# Altium integrated library NSC Audio.IntLib: 691 symbols (part 16 of 18)
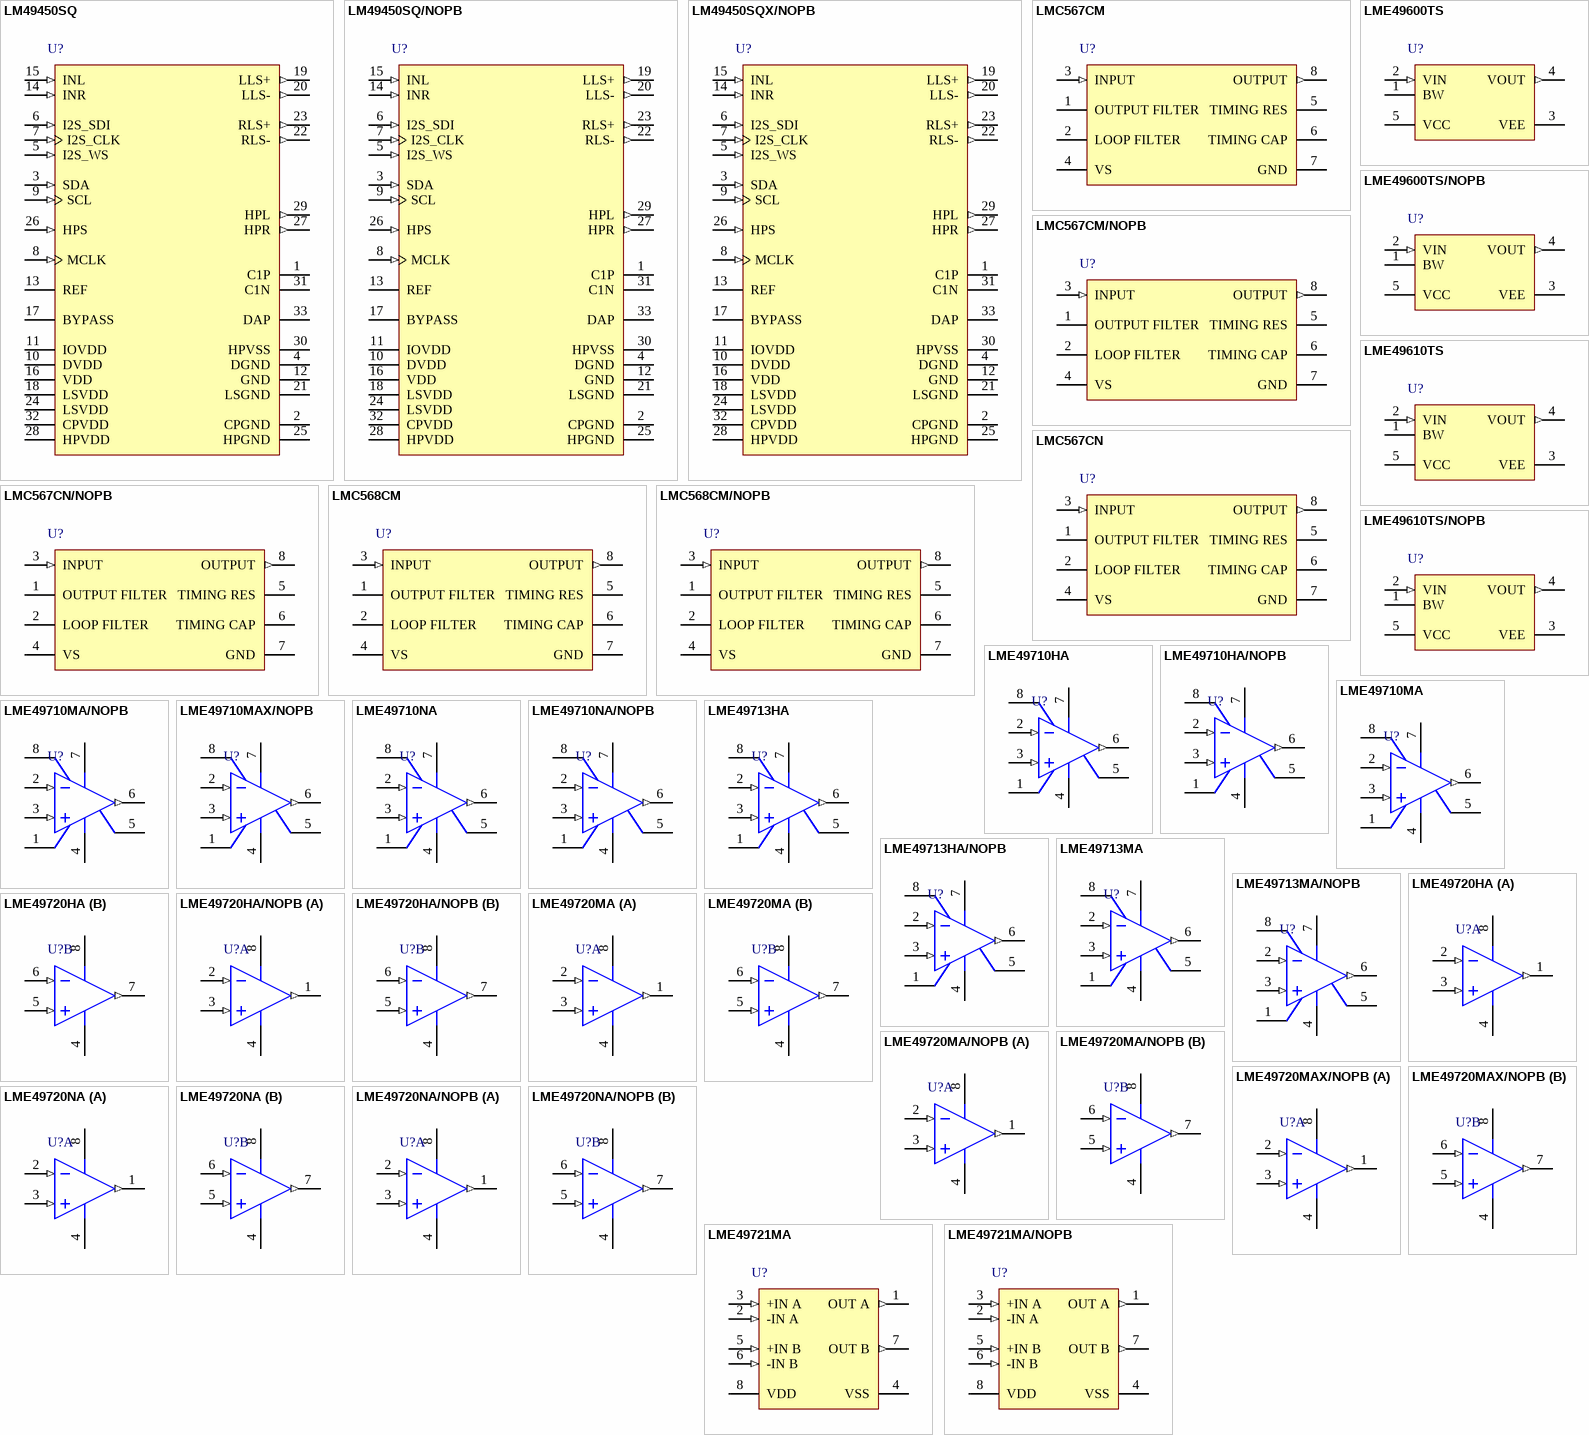
[diagram p42: symbols LM49450SQ to LME49721MA/NOPB]

## LME49600TS
designator U?
High Performance, High Fidelity, High Current Audio Buffer, 5-pin TO-263; PartNumber: LME49600TS; Manufacturer: National Semiconductor; PackageTopMarking: NSUZXYTTE#*LME49600*TS; PowerWise: N; CompType: Audio IC; Published: 4-Dec-2008; DatasheetVersion: Mar-2008; PackageVersion: revD, Apr-2005; PackageReference: TS5B; Publisher: Altium Limited; PackageDescription: TO-263, Molded, .400 x .390 x .180in, 5 Lead, .067in Pitch, Surface Mount; RoHS: Y; PinCount: 5; Code_JEDEC: MO-169-AB; ComponentLink1Description: LME49600 Datasheet; ComponentLink1URL: http://www.national.com/ds/LM/LME49600.pdf; ComponentLink2Description: LME49600 Web Page; ComponentLink2URL: http://www.national.com/pf/LM/LME49600.html; ComponentLink3Description: TS5B Package Page; ComponentLink3URL: http://www.national.com/packaging/folders/ts5b.html
footprint TS5B_N (D2-PAK, 6-Leads, Body 8.6x10.2mm, Pitch 1.7mm, Lead Span 14.1mm, IPC Medium Density)
footprint TS5B_L (D2-PAK, 6-Leads, Body 8.6x10.2mm, Pitch 1.7mm, Lead Span 14.1mm, IPC High Density)
footprint TS5B_M (D2-PAK, 6-Leads, Body 8.6x10.2mm, Pitch 1.7mm, Lead Span 14.1mm, IPC Low Density)
pins: 1 BW, 2 VIN (in), 3 VEE (power), 4 VOUT (out), 5 VCC (power)

## LME49600TS/NOPB
designator U?
High Performance, High Fidelity, High Current Audio Buffer, 5-pin TO-263, Pb-Free; PartNumber: LME49600TS/NOPB; Manufacturer: National Semiconductor; PackageTopMarking: NSUZXYTTE#*LME49600*TS; PowerWise: N; CompType: Audio IC; Published: 1-Mar-2010; DatasheetVersion: Mar-2008; PackageVersion: revD, Apr-2005; PackageReference: TS5B; Publisher: Altium Limited; PackageDescription: TO-263, Molded, .400 x .390 x .180in, 5 Lead, .067in Pitch, Surface Mount; Supplier 1: Digi-Key; Supplier Part Number 1: LME49600TS-ND; Supplier 2: Farnell; Supplier Part Number 2: 1685402; RoHS: Y; PinCount: 5; Code_JEDEC: MO-169-AB; ComponentLink1Description: LME49600 Datasheet; ComponentLink1URL: http://www.national.com/ds/LM/LME49600.pdf; ComponentLink2Description: LME49600 Web Page; ComponentLink2URL: http://www.national.com/pf/LM/LME49600.html; ComponentLink3Description: TS5B Package Page; ComponentLink3URL: http://www.national.com/packaging/folders/ts5b.html
footprint TS5B_N (D2-PAK, 6-Leads, Body 8.6x10.2mm, Pitch 1.7mm, Lead Span 14.1mm, IPC Medium Density)
footprint TS5B_L (D2-PAK, 6-Leads, Body 8.6x10.2mm, Pitch 1.7mm, Lead Span 14.1mm, IPC High Density)
footprint TS5B_M (D2-PAK, 6-Leads, Body 8.6x10.2mm, Pitch 1.7mm, Lead Span 14.1mm, IPC Low Density)
pins: 1 BW, 2 VIN (in), 3 VEE (power), 4 VOUT (out), 5 VCC (power)

## LME49610TS
designator U?
High Performance, High Fidelity, High Current Audio Buffer, 5-pin TO-263; PartNumber: LME49610TS; Manufacturer: National Semiconductor; PackageTopMarking: NSUZXYTTE#*LME49610*TS; PowerWise: N; CompType: Audio IC; Published: 4-Dec-2008; DatasheetVersion: Oct-2009; PackageVersion: revD, Apr-2005; PackageReference: TS5B; Publisher: Altium Limited; PackageDescription: TO-263, Molded, .400 x .390 x .180in, 5 Lead, .067in Pitch, Surface Mount; RoHS: Y; PinCount: 5; Code_JEDEC: MO-169-AB; ComponentLink1Description: LME49610 Datasheet; ComponentLink1URL: http://www.national.com/ds/LM/LME49610.pdf; ComponentLink2Description: LME49610 Web Page; ComponentLink2URL: http://www.national.com/pf/LM/LME49610.html; ComponentLink3Description: TS5B Package Page; ComponentLink3URL: http://www.national.com/packaging/folders/ts5b.html
footprint TS5B_N (D2-PAK, 6-Leads, Body 8.6x10.2mm, Pitch 1.7mm, Lead Span 14.1mm, IPC Medium Density)
footprint TS5B_L (D2-PAK, 6-Leads, Body 8.6x10.2mm, Pitch 1.7mm, Lead Span 14.1mm, IPC High Density)
footprint TS5B_M (D2-PAK, 6-Leads, Body 8.6x10.2mm, Pitch 1.7mm, Lead Span 14.1mm, IPC Low Density)
pins: 1 BW, 2 VIN (in), 3 VEE (power), 4 VOUT (out), 5 VCC (power)

## LME49610TS/NOPB
designator U?
High Performance, High Fidelity, High Current Audio Buffer, 5-pin TO-263, Pb-Free; PartNumber: LME49610TS/NOPB; Manufacturer: National Semiconductor; PackageTopMarking: NSUZXYTTE#*LME49610*TS; PowerWise: N; CompType: Audio IC; Published: 1-Mar-2010; DatasheetVersion: Oct-2009; PackageVersion: revD, Apr-2005; PackageReference: TS5B; Publisher: Altium Limited; PackageDescription: TO-263, Molded, .400 x .390 x .180in, 5 Lead, .067in Pitch, Surface Mount; Supplier 1: Digi-Key; Supplier Part Number 1: LME49610TS-ND; RoHS: Y; PinCount: 5; Code_JEDEC: MO-169-AB; ComponentLink1Description: LME49610 Datasheet; ComponentLink1URL: http://www.national.com/ds/LM/LME49610.pdf; ComponentLink2Description: LME49610 Web Page; ComponentLink2URL: http://www.national.com/pf/LM/LME49610.html; ComponentLink3Description: TS5B Package Page; ComponentLink3URL: http://www.national.com/packaging/folders/ts5b.html
footprint TS5B_N (D2-PAK, 6-Leads, Body 8.6x10.2mm, Pitch 1.7mm, Lead Span 14.1mm, IPC Medium Density)
footprint TS5B_L (D2-PAK, 6-Leads, Body 8.6x10.2mm, Pitch 1.7mm, Lead Span 14.1mm, IPC High Density)
footprint TS5B_M (D2-PAK, 6-Leads, Body 8.6x10.2mm, Pitch 1.7mm, Lead Span 14.1mm, IPC Low Density)
pins: 1 BW, 2 VIN (in), 3 VEE (power), 4 VOUT (out), 5 VCC (power)

## LME49710HA
designator U?
High Performance, High Fidelity Audio Operational Amplifier, 8-pin TO-99; PartNumber: LME49710HA; Manufacturer: National Semiconductor; PackageTopMarking: NSZXYTTE#*LME*49710HA; PowerWise: Y; CompType: Audio IC; Published: 4-Dec-2008; LatestRevisionDate: 01-Mar-2010; LatestRevisionNote: Sch layout changed.; DatasheetVersion: Mar-2007; PackageVersion: revF, Jun-1995; PackageReference: H08C; Publisher: Altium Limited; PackageDescription: Metal Can, TO-99, 8 Lead, .200 Dia., P.C.; Supplier 1: Farnell; Supplier Part Number 1: 1433162; RoHS: Y; PinCount: 8; Code_JEDEC: TO-99; ComponentLink1Description: LME49710 Datasheet; ComponentLink1URL: http://www.national.com/ds/LM/LME49710.pdf; ComponentLink2Description: LME49710 Web Page; ComponentLink2URL: http://www.national.com/pf/LM/LME49710.html; ComponentLink3Description: H08C Package Page; ComponentLink3URL: http://www.national.com/packaging/folders/h08c.html
footprint H08C (Can; 8 Leads; Pin Circle Dia. 5.08 mm; Lead Dia. 0.48 mm (max))
pins: 1 NC, 2 -IN (in), 3 +IN (in), 4 V- (power), 5 NC, 6 OUTPUT (out), 7 V+ (power), 8 NC

## LME49710HA/NOPB
designator U?
High Performance, High Fidelity Audio Operational Amplifier, 8-pin TO-99, Pb-Free; PartNumber: LME49710HA/NOPB; Manufacturer: National Semiconductor; PackageTopMarking: NSZXYTTE#*LME*49710HA; PowerWise: Y; CompType: Audio IC; Published: 1-Mar-2010; DatasheetVersion: Mar-2007; PackageVersion: revF, Jun-1995; PackageReference: H08C; Publisher: Altium Limited; PackageDescription: Metal Can, TO-99, 8 Lead, .200 Dia., P.C.; Supplier 1: Digi-Key; Supplier Part Number 1: LME49710HA-ND; Supplier 2: Farnell; Supplier Part Number 2: 1693910; RoHS: Y; PinCount: 8; Code_JEDEC: TO-99; ComponentLink1Description: LME49710 Datasheet; ComponentLink1URL: http://www.national.com/ds/LM/LME49710.pdf; ComponentLink2Description: LME49710 Web Page; ComponentLink2URL: http://www.national.com/pf/LM/LME49710.html; ComponentLink3Description: H08C Package Page; ComponentLink3URL: http://www.national.com/packaging/folders/h08c.html
footprint H08C (Can; 8 Leads; Pin Circle Dia. 5.08 mm; Lead Dia. 0.48 mm (max))
simulation model LME49860 (SUBCKT)
pins: 1 NC, 2 -IN (in), 3 +IN (in), 4 V- (power), 5 NC, 6 OUTPUT (out), 7 V+ (power), 8 NC

## LME49710MA
designator U?
High Performance, High Fidelity Audio Operational Amplifier, 8-pin Narrow SOIC; PartNumber: LME49710MA; Manufacturer: National Semiconductor; PackageTopMarking: NSZXTT*L49710*MA; PowerWise: Y; CompType: Audio IC; Published: 4-Dec-2008; LatestRevisionDate: 01-Mar-2010; LatestRevisionNote: Sch layout changed.; DatasheetVersion: Mar-2007; PackageVersion: revM, May-2009; PackageReference: M08A; Publisher: Altium Limited; PackageDescription: SOIC Narrow, 4.9 x 3.9 x 1.45mm, 8 Lead, 1.27mm Pitch; Supplier 1: Farnell; Supplier Part Number 1: 1433163; RoHS: Y; PinCount: 8; Code_JEDEC: MS-012-AA; Code_IPC: SOIC127P600-8; ComponentLink1Description: LME49710 Datasheet; ComponentLink1URL: http://www.national.com/ds/LM/LME49710.pdf; ComponentLink2Description: LME49710 Web Page; ComponentLink2URL: http://www.national.com/pf/LM/LME49710.html; ComponentLink3Description: M08A Package Page; ComponentLink3URL: http://www.national.com/packaging/folders/m08a.html
footprint M08A_N (SOIC, 8-Leads, Body 4.9x3.9mm, Pitch 1.27mm, IPC Medium Density)
footprint M08A_L (SOIC, 8-Leads, Body 4.9x3.9mm, Pitch 1.27mm, IPC High Density)
footprint M08A_M (SOIC, 8-Leads, Body 4.9x3.9mm, Pitch 1.27mm, IPC Low Density)
pins: 1 NC, 2 -IN (in), 3 +IN (in), 4 V- (power), 5 NC, 6 OUTPUT (out), 7 V+ (power), 8 NC

## LME49710MA/NOPB
designator U?
High Performance, High Fidelity Audio Operational Amplifier, 8-pin Narrow SOIC, Pb-Free; PartNumber: LME49710MA/NOPB; Manufacturer: National Semiconductor; PackageTopMarking: NSZXTT*L49710*MA; PowerWise: Y; CompType: Audio IC; Published: 1-Mar-2010; DatasheetVersion: Mar-2007; PackageVersion: revM, May-2009; PackageReference: M08A; Publisher: Altium Limited; PackageDescription: SOIC Narrow, 4.9 x 3.9 x 1.45mm, 8 Lead, 1.27mm Pitch; Supplier 1: Digi-Key; Supplier Part Number 1: LME49710MA-ND; Supplier 2: Farnell; Supplier Part Number 2: 1564775; RoHS: Y; PinCount: 8; Code_JEDEC: MS-012-AA; Code_IPC: SOIC127P600-8; ComponentLink1Description: LME49710 Datasheet; ComponentLink1URL: http://www.national.com/ds/LM/LME49710.pdf; ComponentLink2Description: LME49710 Web Page; ComponentLink2URL: http://www.national.com/pf/LM/LME49710.html; ComponentLink3Description: M08A Package Page; ComponentLink3URL: http://www.national.com/packaging/folders/m08a.html
footprint M08A_N (SOIC, 8-Leads, Body 4.9x3.9mm, Pitch 1.27mm, IPC Medium Density)
footprint M08A_L (SOIC, 8-Leads, Body 4.9x3.9mm, Pitch 1.27mm, IPC High Density)
footprint M08A_M (SOIC, 8-Leads, Body 4.9x3.9mm, Pitch 1.27mm, IPC Low Density)
simulation model LME49860 (SUBCKT)
pins: 1 NC, 2 -IN (in), 3 +IN (in), 4 V- (power), 5 NC, 6 OUTPUT (out), 7 V+ (power), 8 NC

## LME49710MAX/NOPB
designator U?
High Performance, High Fidelity Audio Operational Amplifier, 8-pin Narrow SOIC, Pb-Free; PartNumber: LME49710MAX/NOPB; Manufacturer: National Semiconductor; PackageTopMarking: NSZXTT*L49710*MA; PowerWise: Y; CompType: Audio IC; Published: 1-Mar-2010; DatasheetVersion: Mar-2007; PackageVersion: revM, May-2009; PackageReference: M08A; Publisher: Altium Limited; PackageDescription: SOIC Narrow, 4.9 x 3.9 x 1.45mm, 8 Lead, 1.27mm Pitch; Supplier 1: Digi-Key; Supplier Part Number 1: LME49710MAX-ND; RoHS: Y; PinCount: 8; Code_JEDEC: MS-012-AA; Code_IPC: SOIC127P600-8; ComponentLink1Description: LME49710 Datasheet; ComponentLink1URL: http://www.national.com/ds/LM/LME49710.pdf; ComponentLink2Description: LME49710 Web Page; ComponentLink2URL: http://www.national.com/pf/LM/LME49710.html; ComponentLink3Description: M08A Package Page; ComponentLink3URL: http://www.national.com/packaging/folders/m08a.html
footprint M08A_N (SOIC, 8-Leads, Body 4.9x3.9mm, Pitch 1.27mm, IPC Medium Density)
footprint M08A_L (SOIC, 8-Leads, Body 4.9x3.9mm, Pitch 1.27mm, IPC High Density)
footprint M08A_M (SOIC, 8-Leads, Body 4.9x3.9mm, Pitch 1.27mm, IPC Low Density)
simulation model LME49860 (SUBCKT)
pins: 1 NC, 2 -IN (in), 3 +IN (in), 4 V- (power), 5 NC, 6 OUTPUT (out), 7 V+ (power), 8 NC

## LME49710NA
designator U?
High Performance, High Fidelity Audio Operational Amplifier, 8-pin MDIP; PartNumber: LME49710NA; Manufacturer: National Semiconductor; PackageTopMarking: NSUZXYTT*LME*49710NA; PowerWise: Y; CompType: Audio IC; Published: 4-Dec-2008; LatestRevisionDate: 01-Mar-2010; LatestRevisionNote: Sch layout changed.; DatasheetVersion: Mar-2007; PackageVersion: revG, May-2006; PackageReference: N08E; Publisher: Altium Limited; PackageDescription: MDIP, .365 x .250 x .130in, 8 Lead, .100in Pitch; RoHS: Y; PinCount: 8; Code_JEDEC: MS-001-BA; ComponentLink1Description: LME49710 Datasheet; ComponentLink1URL: http://www.national.com/ds/LM/LME49710.pdf; ComponentLink2Description: LME49710 Web Page; ComponentLink2URL: http://www.national.com/pf/LM/LME49710.html; ComponentLink3Description: N08E Package Page; ComponentLink3URL: http://www.national.com/packaging/folders/n08e.html
footprint N08E (DIP, 8-Leads, Row Spacing 7.62mm, Pitch 2.54mm, Body 9.91x6.35mm)
pins: 1 NC, 2 -IN (in), 3 +IN (in), 4 V- (power), 5 NC, 6 OUTPUT (out), 7 V+ (power), 8 NC

## LME49710NA/NOPB
designator U?
High Performance, High Fidelity Audio Operational Amplifier, 8-pin MDIP, Pb-Free; PartNumber: LME49710NA/NOPB; Manufacturer: National Semiconductor; PackageTopMarking: NSUZXYTTE#*LME*49710NA; PowerWise: Y; CompType: Audio IC; Published: 1-Mar-2010; DatasheetVersion: Mar-2007; PackageVersion: revG, May-2006; PackageReference: N08E; Publisher: Altium Limited; PackageDescription: MDIP, .365 x .250 x .130in, 8 Lead, .100in Pitch; Supplier 1: Digi-Key; Supplier Part Number 1: LME49710NA-ND; Supplier 2: Farnell; Supplier Part Number 2: 1684375; RoHS: Y; PinCount: 8; Code_JEDEC: MS-001-BA; ComponentLink1Description: LME49710 Datasheet; ComponentLink1URL: http://www.national.com/ds/LM/LME49710.pdf; ComponentLink2Description: LME49710 Web Page; ComponentLink2URL: http://www.national.com/pf/LM/LME49710.html; ComponentLink3Description: N08E Package Page; ComponentLink3URL: http://www.national.com/packaging/folders/n08e.html
footprint N08E (DIP, 8-Leads, Row Spacing 7.62mm, Pitch 2.54mm, Body 9.91x6.35mm)
simulation model LME49860 (SUBCKT)
pins: 1 NC, 2 -IN (in), 3 +IN (in), 4 V- (power), 5 NC, 6 OUTPUT (out), 7 V+ (power), 8 NC

## LME49713HA
designator U?
High Performance, High Fidelity Current Feedback Audio Operational Amplifier, 8-pin TO-99; PartNumber: LME49713HA; Manufacturer: National Semiconductor; PackageTopMarking: NSZXYTTE#*LME*49713HA; PowerWise: N; CompType: Audio IC; Published: 4-Dec-2008; LatestRevisionDate: 01-Mar-2010; LatestRevisionNote: Sch layout changed.; DatasheetVersion: Aug-2008; PackageVersion: revF, Jun-1995; PackageReference: H08C; Publisher: Altium Limited; PackageDescription: Metal Can, TO-99, 8 Lead, .200 Dia., P.C.; RoHS: Y; PinCount: 8; Code_JEDEC: TO-99; ComponentLink1Description: LME49713 Datasheet; ComponentLink1URL: http://www.national.com/ds/LM/LME49713.pdf; ComponentLink2Description: LME49713 Web Page; ComponentLink2URL: http://www.national.com/pf/LM/LME49713.html; ComponentLink3Description: H08C Package Page; ComponentLink3URL: http://www.national.com/packaging/folders/h08c.html
footprint H08C (Can; 8 Leads; Pin Circle Dia. 5.08 mm; Lead Dia. 0.48 mm (max))
pins: 1 NC, 2 -IN (in), 3 +IN (in), 4 V- (power), 5 NC, 6 OUTPUT (out), 7 V+ (power), 8 NC

## LME49713HA/NOPB
designator U?
High Performance, High Fidelity Current Feedback Audio Operational Amplifier, 8-pin TO-99, Pb-Free; PartNumber: LME49713HA/NOPB; Manufacturer: National Semiconductor; PackageTopMarking: NSZXYTTE#*LME*49713HA; PowerWise: N; CompType: Audio IC; Published: 1-Mar-2010; DatasheetVersion: Aug-2008; PackageVersion: revF, Jun-1995; PackageReference: H08C; Publisher: Altium Limited; PackageDescription: Metal Can, TO-99, 8 Lead, .200 Dia., P.C.; Supplier 1: Digi-Key; Supplier Part Number 1: LME49713HA-ND; RoHS: Y; PinCount: 8; Code_JEDEC: TO-99; ComponentLink1Description: LME49713 Datasheet; ComponentLink1URL: http://www.national.com/ds/LM/LME49713.pdf; ComponentLink2Description: LME49713 Web Page; ComponentLink2URL: http://www.national.com/pf/LM/LME49713.html; ComponentLink3Description: H08C Package Page; ComponentLink3URL: http://www.national.com/packaging/folders/h08c.html
footprint H08C (Can; 8 Leads; Pin Circle Dia. 5.08 mm; Lead Dia. 0.48 mm (max))
pins: 1 NC, 2 -IN (in), 3 +IN (in), 4 V- (power), 5 NC, 6 OUTPUT (out), 7 V+ (power), 8 NC

## LME49713MA
designator U?
High Performance, High Fidelity Current Feedback Audio Operational Amplifier, 8-pin Narrow SOIC; PartNumber: LME49713MA; Manufacturer: National Semiconductor; PackageTopMarking: NSZXTT*L49713*MA; PowerWise: N; CompType: Audio IC; Published: 4-Dec-2008; LatestRevisionDate: 01-Mar-2010; LatestRevisionNote: Sch layout changed.; DatasheetVersion: Aug-2008; PackageVersion: revM, May-2009; PackageReference: M08A; Publisher: Altium Limited; PackageDescription: SOIC Narrow, 4.9 x 3.9 x 1.45mm, 8 Lead, 1.27mm Pitch; Supplier 1: Farnell; Supplier Part Number 1: 1535361; RoHS: Y; PinCount: 8; Code_JEDEC: MS-012-AA; Code_IPC: SOIC127P600-8; ComponentLink1Description: LME49713 Datasheet; ComponentLink1URL: http://www.national.com/ds/LM/LME49713.pdf; ComponentLink2Description: LME49713 Web Page; ComponentLink2URL: http://www.national.com/pf/LM/LME49713.html; ComponentLink3Description: M08A Package Page; ComponentLink3URL: http://www.national.com/packaging/folders/m08a.html
footprint M08A_N (SOIC, 8-Leads, Body 4.9x3.9mm, Pitch 1.27mm, IPC Medium Density)
footprint M08A_L (SOIC, 8-Leads, Body 4.9x3.9mm, Pitch 1.27mm, IPC High Density)
footprint M08A_M (SOIC, 8-Leads, Body 4.9x3.9mm, Pitch 1.27mm, IPC Low Density)
pins: 1 NC, 2 -IN (in), 3 +IN (in), 4 V- (power), 5 NC, 6 OUTPUT (out), 7 V+ (power), 8 NC

## LME49713MA/NOPB
designator U?
High Performance, High Fidelity Current Feedback Audio Operational Amplifier, 8-pin Narrow SOIC, Pb-Free; PartNumber: LME49713MA/NOPB; Manufacturer: National Semiconductor; PackageTopMarking: NSZXTT*L49713*MA; PowerWise: N; CompType: Audio IC; Published: 1-Mar-2010; DatasheetVersion: Aug-2008; PackageVersion: revM, May-2009; PackageReference: M08A; Publisher: Altium Limited; PackageDescription: SOIC Narrow, 4.9 x 3.9 x 1.45mm, 8 Lead, 1.27mm Pitch; Supplier 1: Digi-Key; Supplier Part Number 1: LME49713MA-ND; Supplier 2: Farnell; Supplier Part Number 2: 1532812; RoHS: Y; PinCount: 8; Code_JEDEC: MS-012-AA; Code_IPC: SOIC127P600-8; ComponentLink1Description: LME49713 Datasheet; ComponentLink1URL: http://www.national.com/ds/LM/LME49713.pdf; ComponentLink2Description: LME49713 Web Page; ComponentLink2URL: http://www.national.com/pf/LM/LME49713.html; ComponentLink3Description: M08A Package Page; ComponentLink3URL: http://www.national.com/packaging/folders/m08a.html
footprint M08A_N (SOIC, 8-Leads, Body 4.9x3.9mm, Pitch 1.27mm, IPC Medium Density)
footprint M08A_L (SOIC, 8-Leads, Body 4.9x3.9mm, Pitch 1.27mm, IPC High Density)
footprint M08A_M (SOIC, 8-Leads, Body 4.9x3.9mm, Pitch 1.27mm, IPC Low Density)
pins: 1 NC, 2 -IN (in), 3 +IN (in), 4 V- (power), 5 NC, 6 OUTPUT (out), 7 V+ (power), 8 NC

## LME49720HA
designator U?
Dual High Performance, High Fidelity Audio Operational Amplifier, 8-pin TO-99; PartNumber: LME49720HA; Manufacturer: National Semiconductor; PackageTopMarking: NSZXYTTE#*LME*49720HA; PowerWise: Y; CompType: Audio IC; Published: 4-Dec-2008; LatestRevisionDate: 01-Mar-2010; LatestRevisionNote: Sch layout changed.; DatasheetVersion: Oct-2007; PackageVersion: revF, Jun-1995; PackageReference: H08C; Publisher: Altium Limited; PackageDescription: Metal Can, TO-99, 8 Lead, .200 Dia., P.C.; Supplier 1: Farnell; Supplier Part Number 1: 1433164; RoHS: Y; PinCount: 8; Code_JEDEC: TO-99; ComponentLink1Description: LME49720 Datasheet; ComponentLink1URL: http://www.national.com/ds/LM/LME49720.pdf; ComponentLink2Description: LME49720 Web Page; ComponentLink2URL: http://www.national.com/pf/LM/LME49720.html; ComponentLink3Description: H08C Package Page; ComponentLink3URL: http://www.national.com/packaging/folders/h08c.html
footprint H08C (Can; 8 Leads; Pin Circle Dia. 5.08 mm; Lead Dia. 0.48 mm (max))
pins on every part: 4 V- (power), 8 V+ (power)
part A pins: 1 OUT A (out), 2 IN A (in), 3 IN A (in)
part B pins: 5 IN B (in), 6 IN B (in), 7 OUT B (out)

## LME49720HA/NOPB
designator U?
Dual High Performance, High Fidelity Audio Operational Amplifier, 8-pin TO-99, Pb-Free; PartNumber: LME49720HA/NOPB; Manufacturer: National Semiconductor; PackageTopMarking: NSZXYTTE#*LME*49720HA; PowerWise: Y; CompType: Audio IC; Published: 1-Mar-2010; DatasheetVersion: Oct-2007; PackageVersion: revF, Jun-1995; PackageReference: H08C; Publisher: Altium Limited; PackageDescription: Metal Can, TO-99, 8 Lead, .200 Dia., P.C.; Supplier 1: Digi-Key; Supplier Part Number 1: LME49720HA-ND; Supplier 2: Farnell; Supplier Part Number 2: 1694075; RoHS: Y; PinCount: 8; Code_JEDEC: TO-99; ComponentLink1Description: LME49720 Datasheet; ComponentLink1URL: http://www.national.com/ds/LM/LME49720.pdf; ComponentLink2Description: LME49720 Web Page; ComponentLink2URL: http://www.national.com/pf/LM/LME49720.html; ComponentLink3Description: H08C Package Page; ComponentLink3URL: http://www.national.com/packaging/folders/h08c.html
footprint H08C (Can; 8 Leads; Pin Circle Dia. 5.08 mm; Lead Dia. 0.48 mm (max))
simulation model LME49860 (SUBCKT)
pins on every part: 4 V- (power), 8 V+ (power)
part A pins: 1 OUT A (out), 2 IN A (in), 3 IN A (in)
part B pins: 5 IN B (in), 6 IN B (in), 7 OUT B (out)

## LME49720MA
designator U?
Dual High Performance, High Fidelity Audio Operational Amplifier, 8-pin Narrow SOIC; PartNumber: LME49720MA; Manufacturer: National Semiconductor; PackageTopMarking: NSZXTT*L49720*MA; PowerWise: Y; CompType: Audio IC; Published: 4-Dec-2008; LatestRevisionDate: 01-Mar-2010; LatestRevisionNote: Sch layout changed.; DatasheetVersion: Oct-2007; PackageVersion: revM, May-2009; PackageReference: M08A; Publisher: Altium Limited; PackageDescription: SOIC Narrow, 4.9 x 3.9 x 1.45mm, 8 Lead, 1.27mm Pitch; Supplier 1: Farnell; Supplier Part Number 1: 1433166; RoHS: Y; PinCount: 8; Code_JEDEC: MS-012-AA; Code_IPC: SOIC127P600-8; ComponentLink1Description: LME49720 Datasheet; ComponentLink1URL: http://www.national.com/ds/LM/LME49720.pdf; ComponentLink2Description: LME49720 Web Page; ComponentLink2URL: http://www.national.com/pf/LM/LME49720.html; ComponentLink3Description: M08A Package Page; ComponentLink3URL: http://www.national.com/packaging/folders/m08a.html
footprint M08A_N (SOIC, 8-Leads, Body 4.9x3.9mm, Pitch 1.27mm, IPC Medium Density)
footprint M08A_L (SOIC, 8-Leads, Body 4.9x3.9mm, Pitch 1.27mm, IPC High Density)
footprint M08A_M (SOIC, 8-Leads, Body 4.9x3.9mm, Pitch 1.27mm, IPC Low Density)
pins on every part: 4 V- (power), 8 V+ (power)
part A pins: 1 OUT A (out), 2 IN A (in), 3 IN A (in)
part B pins: 5 IN B (in), 6 IN B (in), 7 OUT B (out)

## LME49720MA/NOPB
designator U?
Dual High Performance, High Fidelity Audio Operational Amplifier, 8-pin Narrow SOIC, Pb-Free; PartNumber: LME49720MA/NOPB; Manufacturer: National Semiconductor; PackageTopMarking: NSZXTT*L49720*MA; PowerWise: Y; CompType: Audio IC; Published: 1-Mar-2010; DatasheetVersion: Oct-2007; PackageVersion: revM, May-2009; PackageReference: M08A; Publisher: Altium Limited; PackageDescription: SOIC Narrow, 4.9 x 3.9 x 1.45mm, 8 Lead, 1.27mm Pitch; Supplier 1: Digi-Key; Supplier Part Number 1: LME49720MA-ND; Supplier 2: Farnell; Supplier Part Number 2: 1564794; RoHS: Y; PinCount: 8; Code_JEDEC: MS-012-AA; Code_IPC: SOIC127P600-8; ComponentLink1Description: LME49720 Datasheet; ComponentLink1URL: http://www.national.com/ds/LM/LME49720.pdf; ComponentLink2Description: LME49720 Web Page; ComponentLink2URL: http://www.national.com/pf/LM/LME49720.html; ComponentLink3Description: M08A Package Page; ComponentLink3URL: http://www.national.com/packaging/folders/m08a.html
footprint M08A_N (SOIC, 8-Leads, Body 4.9x3.9mm, Pitch 1.27mm, IPC Medium Density)
footprint M08A_L (SOIC, 8-Leads, Body 4.9x3.9mm, Pitch 1.27mm, IPC High Density)
footprint M08A_M (SOIC, 8-Leads, Body 4.9x3.9mm, Pitch 1.27mm, IPC Low Density)
simulation model LME49860 (SUBCKT)
pins on every part: 4 V- (power), 8 V+ (power)
part A pins: 1 OUT A (out), 2 IN A (in), 3 IN A (in)
part B pins: 5 IN B (in), 6 IN B (in), 7 OUT B (out)

## LME49720MAX/NOPB
designator U?
Dual High Performance, High Fidelity Audio Operational Amplifier, 8-pin Narrow SOIC, Pb-Free; PartNumber: LME49720MAX/NOPB; Manufacturer: National Semiconductor; PackageTopMarking: NSZXTT*L49720*MA; PowerWise: Y; CompType: Audio IC; Published: 1-Mar-2010; DatasheetVersion: Oct-2007; PackageVersion: revM, May-2009; PackageReference: M08A; Publisher: Altium Limited; PackageDescription: SOIC Narrow, 4.9 x 3.9 x 1.45mm, 8 Lead, 1.27mm Pitch; Supplier 1: Digi-Key; Supplier Part Number 1: LME49720MAX-ND; RoHS: Y; PinCount: 8; Code_JEDEC: MS-012-AA; Code_IPC: SOIC127P600-8; ComponentLink1Description: LME49720 Datasheet; ComponentLink1URL: http://www.national.com/ds/LM/LME49720.pdf; ComponentLink2Description: LME49720 Web Page; ComponentLink2URL: http://www.national.com/pf/LM/LME49720.html; ComponentLink3Description: M08A Package Page; ComponentLink3URL: http://www.national.com/packaging/folders/m08a.html
footprint M08A_N (SOIC, 8-Leads, Body 4.9x3.9mm, Pitch 1.27mm, IPC Medium Density)
footprint M08A_L (SOIC, 8-Leads, Body 4.9x3.9mm, Pitch 1.27mm, IPC High Density)
footprint M08A_M (SOIC, 8-Leads, Body 4.9x3.9mm, Pitch 1.27mm, IPC Low Density)
simulation model LME49860 (SUBCKT)
pins on every part: 4 V- (power), 8 V+ (power)
part A pins: 1 OUT A (out), 2 IN A (in), 3 IN A (in)
part B pins: 5 IN B (in), 6 IN B (in), 7 OUT B (out)

## LME49720NA
designator U?
Dual High Performance, High Fidelity Audio Operational Amplifier, 8-pin MDIP; PartNumber: LME49720NA; Manufacturer: National Semiconductor; PackageTopMarking: NSUZXYTT*LME*49720NA; PowerWise: Y; CompType: Audio IC; Published: 4-Dec-2008; LatestRevisionDate: 01-Mar-2010; LatestRevisionNote: Sch layout changed.; DatasheetVersion: Oct-2007; PackageVersion: revG, May-2006; PackageReference: N08E; Publisher: Altium Limited; PackageDescription: MDIP, .365 x .250 x .130in, 8 Lead, .100in Pitch; RoHS: Y; PinCount: 8; Code_JEDEC: MS-001-BA; ComponentLink1Description: LME49720 Datasheet; ComponentLink1URL: http://www.national.com/ds/LM/LME49720.pdf; ComponentLink2Description: LME49720 Web Page; ComponentLink2URL: http://www.national.com/pf/LM/LME49720.html; ComponentLink3Description: N08E Package Page; ComponentLink3URL: http://www.national.com/packaging/folders/n08e.html
footprint N08E (DIP, 8-Leads, Row Spacing 7.62mm, Pitch 2.54mm, Body 9.91x6.35mm)
pins on every part: 4 V- (power), 8 V+ (power)
part A pins: 1 OUT A (out), 2 IN A (in), 3 IN A (in)
part B pins: 5 IN B (in), 6 IN B (in), 7 OUT B (out)

## LME49720NA/NOPB
designator U?
Dual High Performance, High Fidelity Audio Operational Amplifier, 8-pin MDIP, Pb-Free; PartNumber: LME49720NA/NOPB; Manufacturer: National Semiconductor; PackageTopMarking: NSUZXYTTE#*LME*49720NA; PowerWise: Y; CompType: Audio IC; Published: 1-Mar-2010; DatasheetVersion: Oct-2007; PackageVersion: revG, May-2006; PackageReference: N08E; Publisher: Altium Limited; PackageDescription: MDIP, .365 x .250 x .130in, 8 Lead, .100in Pitch; Supplier 1: Digi-Key; Supplier Part Number 1: LME49720NA-ND; Supplier 2: Farnell; Supplier Part Number 2: 1694587; RoHS: Y; PinCount: 8; Code_JEDEC: MS-001-BA; ComponentLink1Description: LME49720 Datasheet; ComponentLink1URL: http://www.national.com/ds/LM/LME49720.pdf; ComponentLink2Description: LME49720 Web Page; ComponentLink2URL: http://www.national.com/pf/LM/LME49720.html; ComponentLink3Description: N08E Package Page; ComponentLink3URL: http://www.national.com/packaging/folders/n08e.html
footprint N08E (DIP, 8-Leads, Row Spacing 7.62mm, Pitch 2.54mm, Body 9.91x6.35mm)
simulation model LME49860 (SUBCKT)
pins on every part: 4 V- (power), 8 V+ (power)
part A pins: 1 OUT A (out), 2 IN A (in), 3 IN A (in)
part B pins: 5 IN B (in), 6 IN B (in), 7 OUT B (out)

## LME49721MA
designator U?
High Performance, High Fidelity Rail-to-Rail Input/Output Audio Operational Amplifier, 8-pin Narrow SOIC; PartNumber: LME49721MA; Manufacturer: National Semiconductor; PackageTopMarking: NSZXTT*L49721*MA; PowerWise: N; CompType: Audio IC; Published: 4-Dec-2008; DatasheetVersion: Oct-2007; PackageVersion: revM, May-2009; PackageReference: M08A; Publisher: Altium Limited; PackageDescription: SOIC Narrow, 4.9 x 3.9 x 1.45mm, 8 Lead, 1.27mm Pitch; Supplier 1: Farnell; Supplier Part Number 1: 1506809; RoHS: N; PinCount: 8; Code_JEDEC: MS-012-AA; Code_IPC: SOIC127P600-8; ComponentLink1Description: LME49721 Datasheet; ComponentLink1URL: http://www.national.com/ds/LM/LME49721.pdf; ComponentLink2Description: LME49721 Web Page; ComponentLink2URL: http://www.national.com/pf/LM/LME49721.html; ComponentLink3Description: M08A Package Page; ComponentLink3URL: http://www.national.com/packaging/folders/m08a.html
footprint M08A_N (SOIC, 8-Leads, Body 4.9x3.9mm, Pitch 1.27mm, IPC Medium Density)
footprint M08A_L (SOIC, 8-Leads, Body 4.9x3.9mm, Pitch 1.27mm, IPC High Density)
footprint M08A_M (SOIC, 8-Leads, Body 4.9x3.9mm, Pitch 1.27mm, IPC Low Density)
pins: 1 OUT A (out), 2 -IN A (in), 3 +IN A (in), 4 VSS (power), 5 +IN B (in), 6 -IN B (in), 7 OUT B (out), 8 VDD (power)

## LME49721MA/NOPB
designator U?
High Performance, High Fidelity Rail-to-Rail Input/Output Audio Operational Amplifier, 8-pin Narrow SOIC, Pb-Free; PartNumber: LME49721MA/NOPB; Manufacturer: National Semiconductor; PackageTopMarking: NSZXTT*L49721*MA; PowerWise: N; CompType: Audio IC; Published: 1-Mar-2010; DatasheetVersion: Oct-2007; PackageVersion: revM, May-2009; PackageReference: M08A; Publisher: Altium Limited; PackageDescription: SOIC Narrow, 4.9 x 3.9 x 1.45mm, 8 Lead, 1.27mm Pitch; Supplier 1: Digi-Key; Supplier Part Number 1: LME49721MA-ND; Supplier 2: Farnell; Supplier Part Number 2: 1511037; RoHS: Y; PinCount: 8; Code_JEDEC: MS-012-AA; Code_IPC: SOIC127P600-8; ComponentLink1Description: LME49721 Datasheet; ComponentLink1URL: http://www.national.com/ds/LM/LME49721.pdf; ComponentLink2Description: LME49721 Web Page; ComponentLink2URL: http://www.national.com/pf/LM/LME49721.html; ComponentLink3Description: M08A Package Page; ComponentLink3URL: http://www.national.com/packaging/folders/m08a.html
footprint M08A_N (SOIC, 8-Leads, Body 4.9x3.9mm, Pitch 1.27mm, IPC Medium Density)
footprint M08A_L (SOIC, 8-Leads, Body 4.9x3.9mm, Pitch 1.27mm, IPC High Density)
footprint M08A_M (SOIC, 8-Leads, Body 4.9x3.9mm, Pitch 1.27mm, IPC Low Density)
pins: 1 OUT A (out), 2 -IN A (in), 3 +IN A (in), 4 VSS (power), 5 +IN B (in), 6 -IN B (in), 7 OUT B (out), 8 VDD (power)

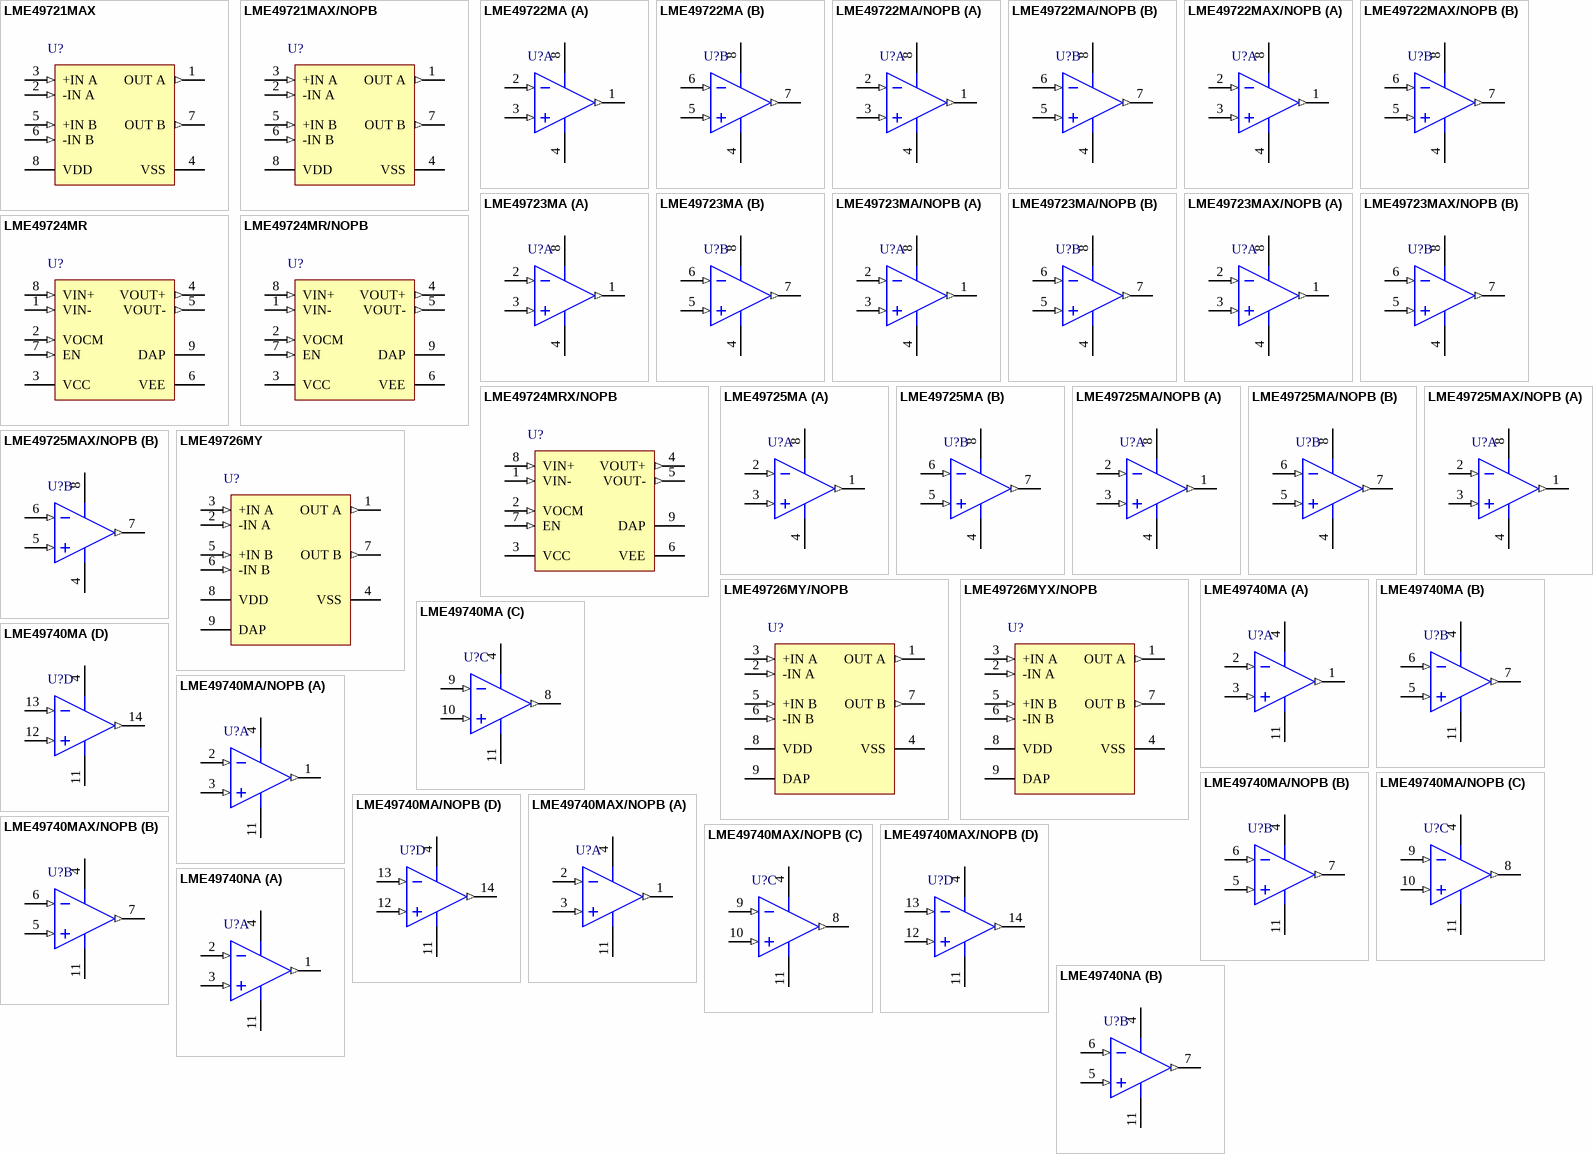
[diagram p24: symbols LME49721MAX to LME49740NA]

## LME49721MAX
designator U?
High Performance, High Fidelity Rail-to-Rail Input/Output Audio Operational Amplifier, 8-pin Narrow SOIC; PartNumber: LME49721MAX; Manufacturer: National Semiconductor; PackageTopMarking: NSZXTT*L49721*MA; PowerWise: N; CompType: Audio IC; Published: 1-Mar-2010; DatasheetVersion: Oct-2007; PackageVersion: revM, May-2009; PackageReference: M08A; Publisher: Altium Limited; PackageDescription: SOIC Narrow, 4.9 x 3.9 x 1.45mm, 8 Lead, 1.27mm Pitch; RoHS: N; PinCount: 8; Code_JEDEC: MS-012-AA; Code_IPC: SOIC127P600-8; ComponentLink1Description: LME49721 Datasheet; ComponentLink1URL: http://www.national.com/ds/LM/LME49721.pdf; ComponentLink2Description: LME49721 Web Page; ComponentLink2URL: http://www.national.com/pf/LM/LME49721.html; ComponentLink3Description: M08A Package Page; ComponentLink3URL: http://www.national.com/packaging/folders/m08a.html
footprint M08A_N (SOIC, 8-Leads, Body 4.9x3.9mm, Pitch 1.27mm, IPC Medium Density)
footprint M08A_L (SOIC, 8-Leads, Body 4.9x3.9mm, Pitch 1.27mm, IPC High Density)
footprint M08A_M (SOIC, 8-Leads, Body 4.9x3.9mm, Pitch 1.27mm, IPC Low Density)
pins: 1 OUT A (out), 2 -IN A (in), 3 +IN A (in), 4 VSS (power), 5 +IN B (in), 6 -IN B (in), 7 OUT B (out), 8 VDD (power)

## LME49721MAX/NOPB
designator U?
High Performance, High Fidelity Rail-to-Rail Input/Output Audio Operational Amplifier, 8-pin Narrow SOIC, Pb-Free; PartNumber: LME49721MAX/NOPB; Manufacturer: National Semiconductor; PackageTopMarking: NSZXTT*L49721*MA; PowerWise: N; CompType: Audio IC; Published: 1-Mar-2010; DatasheetVersion: Oct-2007; PackageVersion: revM, May-2009; PackageReference: M08A; Publisher: Altium Limited; PackageDescription: SOIC Narrow, 4.9 x 3.9 x 1.45mm, 8 Lead, 1.27mm Pitch; Supplier 1: Digi-Key; Supplier Part Number 1: LME49721MAX-ND; RoHS: Y; PinCount: 8; Code_JEDEC: MS-012-AA; Code_IPC: SOIC127P600-8; ComponentLink1Description: LME49721 Datasheet; ComponentLink1URL: http://www.national.com/ds/LM/LME49721.pdf; ComponentLink2Description: LME49721 Web Page; ComponentLink2URL: http://www.national.com/pf/LM/LME49721.html; ComponentLink3Description: M08A Package Page; ComponentLink3URL: http://www.national.com/packaging/folders/m08a.html
footprint M08A_N (SOIC, 8-Leads, Body 4.9x3.9mm, Pitch 1.27mm, IPC Medium Density)
footprint M08A_L (SOIC, 8-Leads, Body 4.9x3.9mm, Pitch 1.27mm, IPC High Density)
footprint M08A_M (SOIC, 8-Leads, Body 4.9x3.9mm, Pitch 1.27mm, IPC Low Density)
pins: 1 OUT A (out), 2 -IN A (in), 3 +IN A (in), 4 VSS (power), 5 +IN B (in), 6 -IN B (in), 7 OUT B (out), 8 VDD (power)

## LME49722MA
designator U?
Low Noise, High Performance, High Fidelity Dual Audio Operational Amplifier, 8-pin Narrow SOIC; PartNumber: LME49722MA; Manufacturer: National Semiconductor; PackageTopMarking: NSZXTT*L49722*MA; PowerWise: N; CompType: Audio IC; Published: 4-Dec-2008; LatestRevisionDate: 01-Mar-2010; LatestRevisionNote: Sch layout changed.; DatasheetVersion: Mar-2008; PackageVersion: revM, May-2009; PackageReference: M08A; Publisher: Altium Limited; PackageDescription: SOIC Narrow, 4.9 x 3.9 x 1.45mm, 8 Lead, 1.27mm Pitch; RoHS: Y; PinCount: 8; Code_JEDEC: MS-012-AA; Code_IPC: SOIC127P600-8; ComponentLink1Description: LME49722 Datasheet; ComponentLink1URL: http://www.national.com/ds/LM/LME49722.pdf; ComponentLink2Description: LME49722 Web Page; ComponentLink2URL: http://www.national.com/pf/LM/LME49722.html; ComponentLink3Description: M08A Package Page; ComponentLink3URL: http://www.national.com/packaging/folders/m08a.html
footprint M08A_N (SOIC, 8-Leads, Body 4.9x3.9mm, Pitch 1.27mm, IPC Medium Density)
footprint M08A_L (SOIC, 8-Leads, Body 4.9x3.9mm, Pitch 1.27mm, IPC High Density)
footprint M08A_M (SOIC, 8-Leads, Body 4.9x3.9mm, Pitch 1.27mm, IPC Low Density)
pins on every part: 4 V- (power), 8 V+ (power)
part A pins: 1 OUT A (out), 2 IN A (in), 3 IN A (in)
part B pins: 5 IN B (in), 6 IN B (in), 7 OUT B (out)

## LME49722MA/NOPB
designator U?
Low Noise, High Performance, High Fidelity Dual Audio Operational Amplifier, 8-pin Narrow SOIC, Pb-Free; PartNumber: LME49722MA/NOPB; Manufacturer: National Semiconductor; PackageTopMarking: NSZXTT*L49722*MA; PowerWise: N; CompType: Audio IC; Published: 1-Mar-2010; DatasheetVersion: Mar-2008; PackageVersion: revM, May-2009; PackageReference: M08A; Publisher: Altium Limited; PackageDescription: SOIC Narrow, 4.9 x 3.9 x 1.45mm, 8 Lead, 1.27mm Pitch; Supplier 1: Digi-Key; Supplier Part Number 1: LME49722MA-ND; Supplier 2: Farnell; Supplier Part Number 2: 1685404; RoHS: Y; PinCount: 8; Code_JEDEC: MS-012-AA; Code_IPC: SOIC127P600-8; ComponentLink1Description: LME49722 Datasheet; ComponentLink1URL: http://www.national.com/ds/LM/LME49722.pdf; ComponentLink2Description: LME49722 Web Page; ComponentLink2URL: http://www.national.com/pf/LM/LME49722.html; ComponentLink3Description: M08A Package Page; ComponentLink3URL: http://www.national.com/packaging/folders/m08a.html
footprint M08A_N (SOIC, 8-Leads, Body 4.9x3.9mm, Pitch 1.27mm, IPC Medium Density)
footprint M08A_L (SOIC, 8-Leads, Body 4.9x3.9mm, Pitch 1.27mm, IPC High Density)
footprint M08A_M (SOIC, 8-Leads, Body 4.9x3.9mm, Pitch 1.27mm, IPC Low Density)
pins on every part: 4 V- (power), 8 V+ (power)
part A pins: 1 OUT A (out), 2 IN A (in), 3 IN A (in)
part B pins: 5 IN B (in), 6 IN B (in), 7 OUT B (out)

## LME49722MAX/NOPB
designator U?
Low Noise, High Performance, High Fidelity Dual Audio Operational Amplifier, 8-pin Narrow SOIC, Pb-Free; PartNumber: LME49722MAX/NOPB; Manufacturer: National Semiconductor; PackageTopMarking: NSZXTT*L49722*MA; PowerWise: N; CompType: Audio IC; Published: 1-Mar-2010; DatasheetVersion: Mar-2008; PackageVersion: revM, May-2009; PackageReference: M08A; Publisher: Altium Limited; PackageDescription: SOIC Narrow, 4.9 x 3.9 x 1.45mm, 8 Lead, 1.27mm Pitch; Supplier 1: Digi-Key; Supplier Part Number 1: LME49722MAX-ND; RoHS: Y; PinCount: 8; Code_JEDEC: MS-012-AA; Code_IPC: SOIC127P600-8; ComponentLink1Description: LME49722 Datasheet; ComponentLink1URL: http://www.national.com/ds/LM/LME49722.pdf; ComponentLink2Description: LME49722 Web Page; ComponentLink2URL: http://www.national.com/pf/LM/LME49722.html; ComponentLink3Description: M08A Package Page; ComponentLink3URL: http://www.national.com/packaging/folders/m08a.html
footprint M08A_N (SOIC, 8-Leads, Body 4.9x3.9mm, Pitch 1.27mm, IPC Medium Density)
footprint M08A_L (SOIC, 8-Leads, Body 4.9x3.9mm, Pitch 1.27mm, IPC High Density)
footprint M08A_M (SOIC, 8-Leads, Body 4.9x3.9mm, Pitch 1.27mm, IPC Low Density)
pins on every part: 4 V- (power), 8 V+ (power)
part A pins: 1 OUT A (out), 2 IN A (in), 3 IN A (in)
part B pins: 5 IN B (in), 6 IN B (in), 7 OUT B (out)

## LME49723MA
designator U?
Dual High Fidelity Audio Operational Amplifier, 8-pin Narrow SOIC; PartNumber: LME49723MA; Manufacturer: National Semiconductor; PackageTopMarking: NSZXTT*L49723*MA; PowerWise: N; CompType: Audio IC; Published: 4-Dec-2008; LatestRevisionDate: 01-Mar-2010; LatestRevisionNote: Sch layout changed.; DatasheetVersion: Feb-2008; PackageVersion: revM, May-2009; PackageReference: M08A; Publisher: Altium Limited; PackageDescription: SOIC Narrow, 4.9 x 3.9 x 1.45mm, 8 Lead, 1.27mm Pitch; RoHS: Y; PinCount: 8; Code_JEDEC: MS-012-AA; Code_IPC: SOIC127P600-8; ComponentLink1Description: LME49723 Datasheet; ComponentLink1URL: http://www.national.com/ds/LM/LME49723.pdf; ComponentLink2Description: LME49723 Web Page; ComponentLink2URL: http://www.national.com/pf/LM/LME49723.html; ComponentLink3Description: M08A Package Page; ComponentLink3URL: http://www.national.com/packaging/folders/m08a.html
footprint M08A_N (SOIC, 8-Leads, Body 4.9x3.9mm, Pitch 1.27mm, IPC Medium Density)
footprint M08A_L (SOIC, 8-Leads, Body 4.9x3.9mm, Pitch 1.27mm, IPC High Density)
footprint M08A_M (SOIC, 8-Leads, Body 4.9x3.9mm, Pitch 1.27mm, IPC Low Density)
pins on every part: 4 V- (power), 8 V+ (power)
part A pins: 1 OUT A (out), 2 IN A (in), 3 IN A (in)
part B pins: 5 IN B (in), 6 IN B (in), 7 OUT B (out)

## LME49723MA/NOPB
designator U?
Dual High Fidelity Audio Operational Amplifier, 8-pin Narrow SOIC, Pb-Free; PartNumber: LME49723MA/NOPB; Manufacturer: National Semiconductor; PackageTopMarking: NSZXTT*L49723*MA; PowerWise: N; CompType: Audio IC; Published: 1-Mar-2010; DatasheetVersion: Feb-2008; PackageVersion: revM, May-2009; PackageReference: M08A; Publisher: Altium Limited; PackageDescription: SOIC Narrow, 4.9 x 3.9 x 1.45mm, 8 Lead, 1.27mm Pitch; Supplier 1: Digi-Key; Supplier Part Number 1: LME49723MA-ND; RoHS: Y; PinCount: 8; Code_JEDEC: MS-012-AA; Code_IPC: SOIC127P600-8; ComponentLink1Description: LME49723 Datasheet; ComponentLink1URL: http://www.national.com/ds/LM/LME49723.pdf; ComponentLink2Description: LME49723 Web Page; ComponentLink2URL: http://www.national.com/pf/LM/LME49723.html; ComponentLink3Description: M08A Package Page; ComponentLink3URL: http://www.national.com/packaging/folders/m08a.html
footprint M08A_N (SOIC, 8-Leads, Body 4.9x3.9mm, Pitch 1.27mm, IPC Medium Density)
footprint M08A_L (SOIC, 8-Leads, Body 4.9x3.9mm, Pitch 1.27mm, IPC High Density)
footprint M08A_M (SOIC, 8-Leads, Body 4.9x3.9mm, Pitch 1.27mm, IPC Low Density)
pins on every part: 4 V- (power), 8 V+ (power)
part A pins: 1 OUT A (out), 2 IN A (in), 3 IN A (in)
part B pins: 5 IN B (in), 6 IN B (in), 7 OUT B (out)

## LME49723MAX/NOPB
designator U?
Dual High Fidelity Audio Operational Amplifier, 8-pin Narrow SOIC, Pb-Free; PartNumber: LME49723MAX/NOPB; Manufacturer: National Semiconductor; PackageTopMarking: NSZXTT*L49723*MA; PowerWise: N; CompType: Audio IC; Published: 1-Mar-2010; DatasheetVersion: Feb-2008; PackageVersion: revM, May-2009; PackageReference: M08A; Publisher: Altium Limited; PackageDescription: SOIC Narrow, 4.9 x 3.9 x 1.45mm, 8 Lead, 1.27mm Pitch; Supplier 1: Digi-Key; Supplier Part Number 1: LME49723MAX-ND; RoHS: Y; PinCount: 8; Code_JEDEC: MS-012-AA; Code_IPC: SOIC127P600-8; ComponentLink1Description: LME49723 Datasheet; ComponentLink1URL: http://www.national.com/ds/LM/LME49723.pdf; ComponentLink2Description: LME49723 Web Page; ComponentLink2URL: http://www.national.com/pf/LM/LME49723.html; ComponentLink3Description: M08A Package Page; ComponentLink3URL: http://www.national.com/packaging/folders/m08a.html
footprint M08A_N (SOIC, 8-Leads, Body 4.9x3.9mm, Pitch 1.27mm, IPC Medium Density)
footprint M08A_L (SOIC, 8-Leads, Body 4.9x3.9mm, Pitch 1.27mm, IPC High Density)
footprint M08A_M (SOIC, 8-Leads, Body 4.9x3.9mm, Pitch 1.27mm, IPC Low Density)
pins on every part: 4 V- (power), 8 V+ (power)
part A pins: 1 OUT A (out), 2 IN A (in), 3 IN A (in)
part B pins: 5 IN B (in), 6 IN B (in), 7 OUT B (out)

## LME49724MR
designator U?
High Performance, High Fidelity, Fully-Differential Audio Operational Amplifier, 8-pin PSOP; PartNumber: LME49724MR; Manufacturer: National Semiconductor; PackageTopMarking: NSXYTT*L49724*MR; PowerWise: N; CompType: Audio IC; Published: 29-May-2009; DatasheetVersion: Nov-2008; PackageVersion: revB, Dec-2007; PackageReference: MRA08B; Publisher: Altium Limited; PackageDescription: Molded, PSOP .193 x .154 x .058in, 8 Lead, .050in Pitch, Large DAP; Supplier 1: Digi-Key; Supplier Part Number 1: LME49724MR-ND; RoHS: Y; PinCount: 8; Code_JEDEC: MS-012-AA; ComponentLink1Description: LME49724 Datasheet; ComponentLink1URL: http://www.national.com/ds/LM/LME49724.pdf; ComponentLink2Description: LME49724 Web Page; ComponentLink2URL: http://www.national.com/pf/LM/LME49724.html; ComponentLink3Description: MRA08B Package Page; ComponentLink3URL: http://www.national.com/packaging/folders/mra08b.html
footprint MRA08B_N (SOIC, 8-Leads, Body 4.9x3.9mm, Pitch 1.27mm, Exposed Pad, IPC Medium Density)
footprint MRA08B_L (SOIC, 8-Leads, Body 4.9x3.9mm, Pitch 1.27mm, Exposed Pad, IPC High Density)
footprint MRA08B_M (SOIC, 8-Leads, Body 4.9x3.9mm, Pitch 1.27mm, Exposed Pad, IPC Low Density)
pins: 1 VIN- (in), 2 VOCM (in), 3 VCC (power), 4 VOUT+ (out), 5 VOUT- (out), 6 VEE (power), 7 EN (in), 8 VIN+ (in), 9 DAP (power)

## LME49724MR/NOPB
designator U?
High Performance, High Fidelity, Fully-Differential Audio Operational Amplifier, 8-pin PSOP, Pb-Free; PartNumber: LME49724MR/NOPB; Manufacturer: National Semiconductor; PackageTopMarking: NSXYTT*L49724*MR; PowerWise: N; CompType: Audio IC; Published: 1-Mar-2010; DatasheetVersion: Nov-2008; PackageVersion: revB, Dec-2007; PackageReference: MRA08B; Publisher: Altium Limited; PackageDescription: Molded, PSOP .193 x .154 x .058in, 8 Lead, .050in Pitch, Large DAP; Supplier 1: Digi-Key; Supplier Part Number 1: LME49724MR/NOPB-ND; RoHS: Y; PinCount: 8; Code_JEDEC: MS-012-AA; ComponentLink1Description: LME49724 Datasheet; ComponentLink1URL: http://www.national.com/ds/LM/LME49724.pdf; ComponentLink2Description: LME49724 Web Page; ComponentLink2URL: http://www.national.com/pf/LM/LME49724.html; ComponentLink3Description: MRA08B Package Page; ComponentLink3URL: http://www.national.com/packaging/folders/mra08b.html
footprint MRA08B_N (SOIC, 8-Leads, Body 4.9x3.9mm, Pitch 1.27mm, Exposed Pad, IPC Medium Density)
footprint MRA08B_L (SOIC, 8-Leads, Body 4.9x3.9mm, Pitch 1.27mm, Exposed Pad, IPC High Density)
footprint MRA08B_M (SOIC, 8-Leads, Body 4.9x3.9mm, Pitch 1.27mm, Exposed Pad, IPC Low Density)
pins: 1 VIN- (in), 2 VOCM (in), 3 VCC (power), 4 VOUT+ (out), 5 VOUT- (out), 6 VEE (power), 7 EN (in), 8 VIN+ (in), 9 DAP (power)

## LME49724MRX/NOPB
designator U?
High Performance, High Fidelity, Fully-Differential Audio Operational Amplifier, 8-pin PSOP, Pb-Free; PartNumber: LME49724MRX/NOPB; Manufacturer: National Semiconductor; PackageTopMarking: NSXYTT*L49724*MR; PowerWise: N; CompType: Audio IC; Published: 1-Mar-2010; DatasheetVersion: Nov-2008; PackageVersion: revB, Dec-2007; PackageReference: MRA08B; Publisher: Altium Limited; PackageDescription: Molded, PSOP .193 x .154 x .058in, 8 Lead, .050in Pitch, Large DAP; Supplier 1: Digi-Key; Supplier Part Number 1: LME49724MRX/NOPB-ND; RoHS: Y; PinCount: 8; Code_JEDEC: MS-012-AA; ComponentLink1Description: LME49724 Datasheet; ComponentLink1URL: http://www.national.com/ds/LM/LME49724.pdf; ComponentLink2Description: LME49724 Web Page; ComponentLink2URL: http://www.national.com/pf/LM/LME49724.html; ComponentLink3Description: MRA08B Package Page; ComponentLink3URL: http://www.national.com/packaging/folders/mra08b.html
footprint MRA08B_N (SOIC, 8-Leads, Body 4.9x3.9mm, Pitch 1.27mm, Exposed Pad, IPC Medium Density)
footprint MRA08B_L (SOIC, 8-Leads, Body 4.9x3.9mm, Pitch 1.27mm, Exposed Pad, IPC High Density)
footprint MRA08B_M (SOIC, 8-Leads, Body 4.9x3.9mm, Pitch 1.27mm, Exposed Pad, IPC Low Density)
pins: 1 VIN- (in), 2 VOCM (in), 3 VCC (power), 4 VOUT+ (out), 5 VOUT- (out), 6 VEE (power), 7 EN (in), 8 VIN+ (in), 9 DAP (power)

## LME49725MA
designator U?
PowerWise® Dual High Performance, High Fidelity Audio Operational Amplifier, 8-pin Narrow SOIC; PartNumber: LME49725MA; Manufacturer: National Semiconductor; PackageTopMarking: NSZXTT*L49725*MA; PowerWise: Y; CompType: Audio IC; Published: 4-Dec-2008; LatestRevisionDate: 01-Mar-2010; LatestRevisionNote: Sch layout changed.; DatasheetVersion: Apr-2008; PackageVersion: revM, May-2009; PackageReference: M08A; Publisher: Altium Limited; PackageDescription: SOIC Narrow, 4.9 x 3.9 x 1.45mm, 8 Lead, 1.27mm Pitch; Supplier 1: Farnell; Supplier Part Number 1: 1589526; RoHS: Y; PinCount: 8; Code_JEDEC: MS-012-AA; Code_IPC: SOIC127P600-8; ComponentLink1Description: LME49725 Datasheet; ComponentLink1URL: http://www.national.com/ds/LM/LME49725.pdf; ComponentLink2Description: LME49725 Web Page; ComponentLink2URL: http://www.national.com/pf/LM/LME49725.html; ComponentLink3Description: M08A Package Page; ComponentLink3URL: http://www.national.com/packaging/folders/m08a.html
footprint M08A_N (SOIC, 8-Leads, Body 4.9x3.9mm, Pitch 1.27mm, IPC Medium Density)
footprint M08A_L (SOIC, 8-Leads, Body 4.9x3.9mm, Pitch 1.27mm, IPC High Density)
footprint M08A_M (SOIC, 8-Leads, Body 4.9x3.9mm, Pitch 1.27mm, IPC Low Density)
pins on every part: 4 V- (power), 8 V+ (power)
part A pins: 1 OUT A (out), 2 IN A (in), 3 IN A (in)
part B pins: 5 IN B (in), 6 IN B (in), 7 OUT B (out)

## LME49725MA/NOPB
designator U?
PowerWise® Dual High Performance, High Fidelity Audio Operational Amplifier, 8-pin Narrow SOIC, Pb-Free; PartNumber: LME49725MA/NOPB; Manufacturer: National Semiconductor; PackageTopMarking: NSZXTT*L49725*MA; PowerWise: N; CompType: Audio IC; Published: 1-Mar-2010; DatasheetVersion: Apr-2008; PackageVersion: revM, May-2009; PackageReference: M08A; Publisher: Altium Limited; PackageDescription: SOIC Narrow, 4.9 x 3.9 x 1.45mm, 8 Lead, 1.27mm Pitch; Supplier 1: Digi-Key; Supplier Part Number 1: LME49725MA-ND; RoHS: Y; PinCount: 8; Code_JEDEC: MS-012-AA; Code_IPC: SOIC127P600-8; ComponentLink1Description: LME49725 Datasheet; ComponentLink1URL: http://www.national.com/ds/LM/LME49725.pdf; ComponentLink2Description: LME49725 Web Page; ComponentLink2URL: http://www.national.com/pf/LM/LME49725.html; ComponentLink3Description: M08A Package Page; ComponentLink3URL: http://www.national.com/packaging/folders/m08a.html
footprint M08A_N (SOIC, 8-Leads, Body 4.9x3.9mm, Pitch 1.27mm, IPC Medium Density)
footprint M08A_L (SOIC, 8-Leads, Body 4.9x3.9mm, Pitch 1.27mm, IPC High Density)
footprint M08A_M (SOIC, 8-Leads, Body 4.9x3.9mm, Pitch 1.27mm, IPC Low Density)
pins on every part: 4 V- (power), 8 V+ (power)
part A pins: 1 OUT A (out), 2 IN A (in), 3 IN A (in)
part B pins: 5 IN B (in), 6 IN B (in), 7 OUT B (out)

## LME49725MAX/NOPB
designator U?
PowerWise® Dual High Performance, High Fidelity Audio Operational Amplifier, 8-pin Narrow SOIC, Pb-Free; PartNumber: LME49725MAX/NOPB; Manufacturer: National Semiconductor; PackageTopMarking: NSZXTT*L49725*MA; PowerWise: N; CompType: Audio IC; Published: 1-Mar-2010; DatasheetVersion: Apr-2008; PackageVersion: revM, May-2009; PackageReference: M08A; Publisher: Altium Limited; PackageDescription: SOIC Narrow, 4.9 x 3.9 x 1.45mm, 8 Lead, 1.27mm Pitch; Supplier 1: Digi-Key; Supplier Part Number 1: LME49725MAX-ND; RoHS: Y; PinCount: 8; Code_JEDEC: MS-012-AA; Code_IPC: SOIC127P600-8; ComponentLink1Description: LME49725 Datasheet; ComponentLink1URL: http://www.national.com/ds/LM/LME49725.pdf; ComponentLink2Description: LME49725 Web Page; ComponentLink2URL: http://www.national.com/pf/LM/LME49725.html; ComponentLink3Description: M08A Package Page; ComponentLink3URL: http://www.national.com/packaging/folders/m08a.html
footprint M08A_N (SOIC, 8-Leads, Body 4.9x3.9mm, Pitch 1.27mm, IPC Medium Density)
footprint M08A_L (SOIC, 8-Leads, Body 4.9x3.9mm, Pitch 1.27mm, IPC High Density)
footprint M08A_M (SOIC, 8-Leads, Body 4.9x3.9mm, Pitch 1.27mm, IPC Low Density)
pins on every part: 4 V- (power), 8 V+ (power)
part A pins: 1 OUT A (out), 2 IN A (in), 3 IN A (in)
part B pins: 5 IN B (in), 6 IN B (in), 7 OUT B (out)